# EAGLE library part BMP390 (library BMP390)
Board Mount Pressure Sensors Source: Datasheet <https://www.bosch-sensortec.com/media/boschsensortec/downloads/datasheets/bst-bmp390-ds002.pdf>
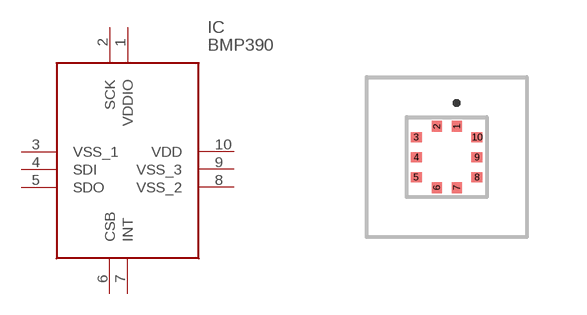
[diagram p0: symbol with the pads of BMP390; footprint BMP390]

Designator prefix IC

## BMP390 (Arrow_Part_Number: BMP390; Arrow_Price-Stock: https://www.arrow.com/en/products/bmp390/bosch?region=nac; Description: Board Mount Pressure Sensors; Height: 0.8mm; Manufacturer_Name: BOSCH; Manufacturer_Part_Number: BMP390; Mouser_Part_Number: 262-BMP390; Mouser_Price-Stock: https://www.mouser.co.uk/ProductDetail/Bosch-Sensortec/BMP390?qs=QNEnbhJQKvYQVfvRMgo2YA%3D%3D)  [BMP390]
1  VDDIO
2  SCK
3  VSS_1
4  SDI
5  SDO
6  CSB
7  INT
8  VSS_2
9  VSS_3
10  VDD

## Footprint BMP390 (pad centres in mm)
BMP390
smd 0.25 x 0.275: 1 0.25,0.763; 2 -0.25,0.763; 6 -0.25,-0.763; 7 0.25,-0.763
smd 0.275 x 0.25: 3 -0.762,0.5; 4 -0.762,0; 5 -0.762,-0.5; 8 0.762,-0.5; 9 0.762,0; 10 0.762,0.5